# Altium footprint library XTAL1140X490X430D1340L450X60N.PcbLib: 1 footprints
Each footprint in its own frame and in the unit in brackets; x right, y up, seen from the top. Pads: shape width x height; smd on the part's side, far side on the other; paste and mask are expansions set on the pad; w line width, h text height; cw(c..) or ccw(c..) is an arc to the next point about the centre after c.
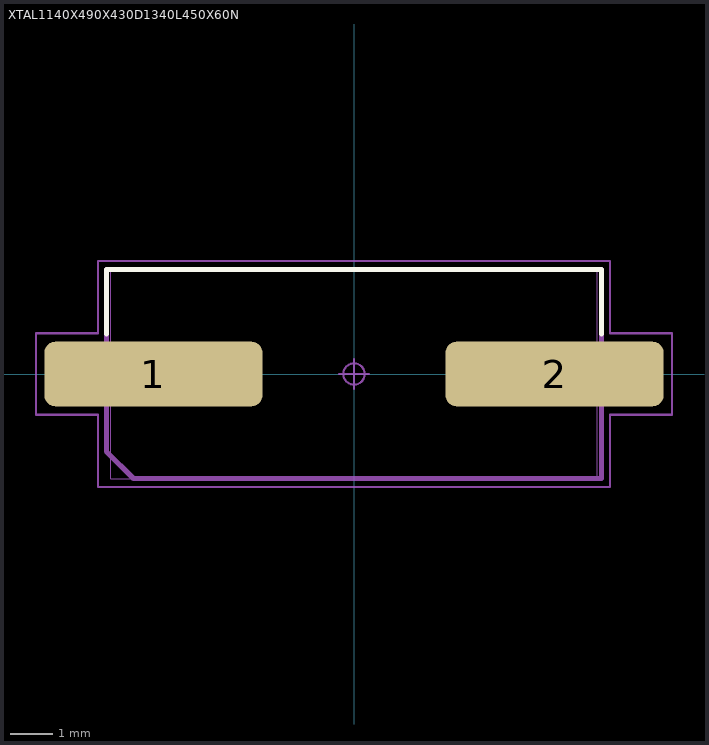
[diagram p0: the footprint, top view; thin cyan lines are the x and y axes]

## XTAL1140X490X430D1340L450X60N [mm] "SMD Crystal; 11.40 mm L X 11.40 mm W X 4.30 mm H Body"
height 4.3
pads (2):
  rrect33% 5.112x1.512 smd: 1(-4.7,0) 2(4.7,0)
Top Overlay:
  lines w0.12: -5.8,2.45 5.8,2.45 ; -5.8,2.45 -5.8,0.936 -5.8,2.45 ; -5.8,2.45 5.8,2.45 ; 5.8,2.45 5.8,0.936 5.8,2.45
Mechanical 3:
  lines w0.12: -5.8,-1.82 -5.17,-2.45 5.8,-2.45 5.8,2.45 -5.8,2.45 -5.8,-1.82
Mechanical 5:
  lines w0.025: -6.7,-0.3 -2.2,-0.3 -2.2,0.3 -6.7,0.3 -6.7,-0.3 ; -5.7,-2.45 -5.7,2.45 5.7,2.45 5.7,-2.45 -5.7,-2.45 ; 2.2,-0.3 2.2,0.3 6.7,0.3 6.7,-0.3 2.2,-0.3
Mechanical 7:
  circle w0.05: c0,0 r0.25
  lines w0.05: -0.35,0 0.35,0 ; 0,-0.35 0,0.35 ; -7.456,-0.956 -7.456,0.956 -6,0.956 -6,2.65 6,2.65 6,0.956 7.456,0.956 7.456,-0.956 6,-0.956 6,-2.65 -6,-2.65 -6,-0.956 -7.456,-0.956
Mechanical 9:
  text "'.Designator'" at -5.69,0.999 h1.02
3D body "XTAL1140X490X430D1340L450X60.STEP": height 4.3, standoff 0, extent -6.7,-2.45 6.7,2.45
3D body: height 17.4, standoff 0, extent -7.456,-2.65 7.456,2.65